# Altium integrated library TI Amplifiers and Linear Operational Amplifier Precision Amplifier Part One.IntLib: 2299 symbols (part 25 of 85)
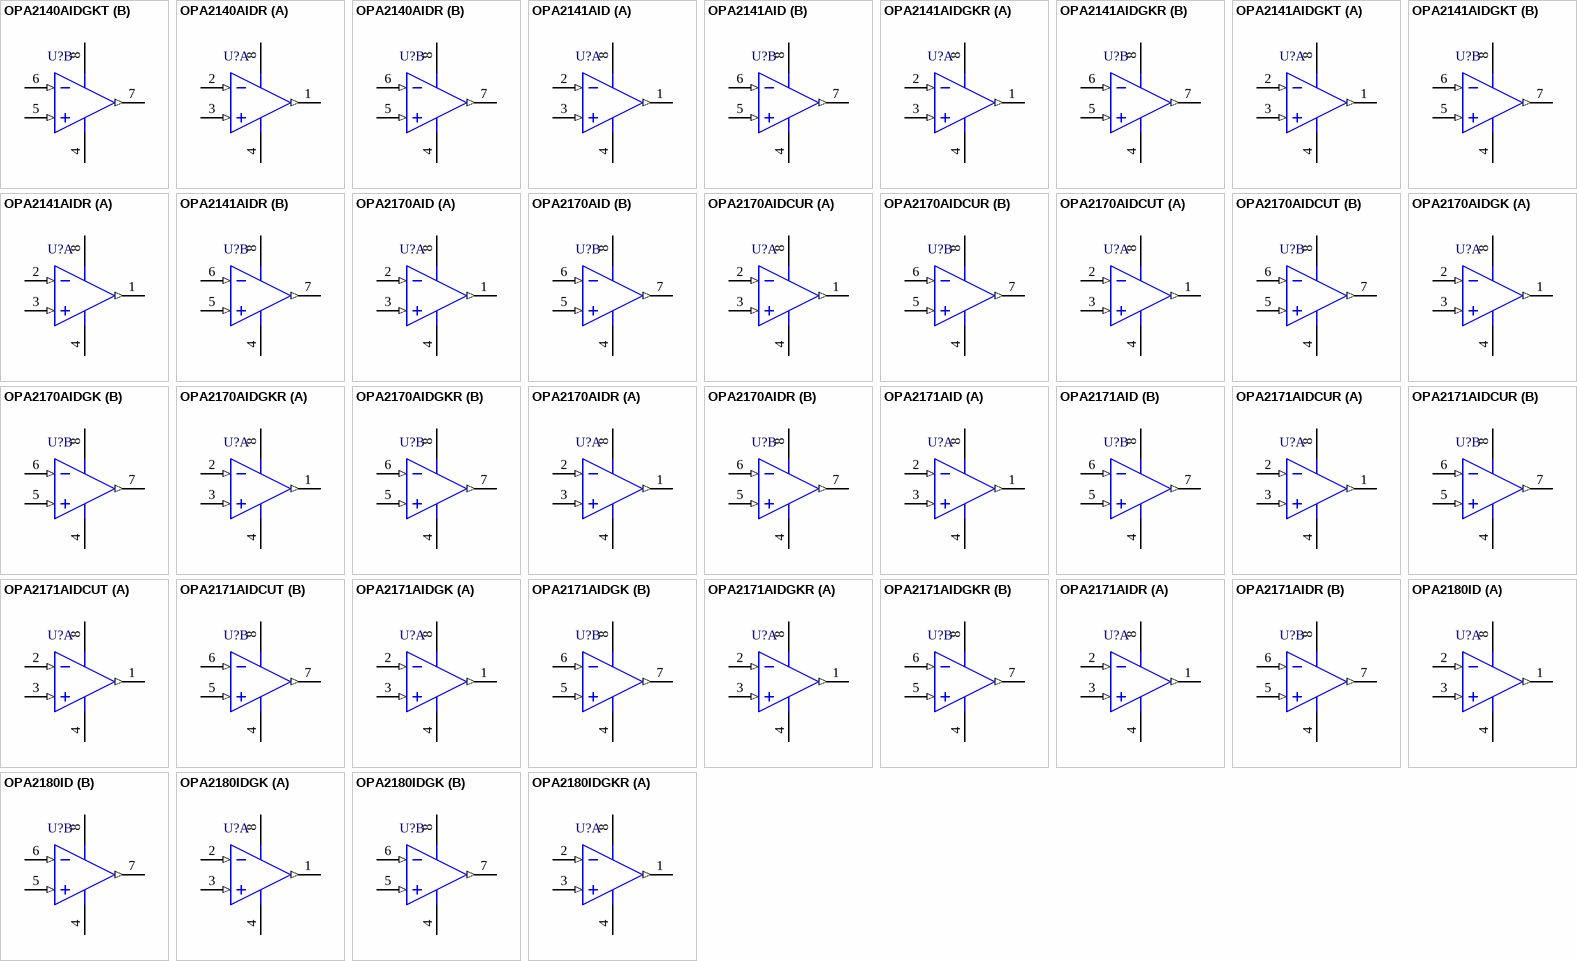
[diagram p148: symbols OPA2140AIDGKT to OPA2180IDGKR]

## OPA2141AIDR
designator U?
10 MHz, Single Supply, Low Noise, JFET Precision Amplifier, 4.5 to 36 V, -40 to 125 degC, 8-pin SOIC (D8), Green (RoHS & no Sb/Br); Manufacturer: Texas Instruments; PartNumber: OPA2141AIDR; CMRR(Min)(dB): 120; GBW(Typ)(MHz): 10; IIB(Max)(pA): 20; Iq per channel(Max)(mA): 2.3; Number of Channels: 2; Packing: LARGE T&R; Rating: Catalog; Sub Family: High Supply Voltage Amplifier (>=30V), Low Noise Amp (<=10nV/rtHz), Precision Amplifier; Total Supply Voltage(Max)(+5V is 5, +/-5V is 10): 36; Total Supply Voltage(Min)(+5V is 5, +/-5V is 10): 4.5; Vio (25C)(Max)(mV): 3.5; DatasheetVersion: SBOS510B; PackageVersion: 4040047-3/M, 06/2011; PackageReference: D8; PackageDescription: 8-Pin Plastic Small Outline, Body 4.9 x 3.9 mm, Pitch 1.27 mm; Supplier 1: Digi-Key; Supplier Part Number 1: OPA2141AIDR-ND; Supplier 2: Mouser; Supplier Part Number 2: 595-OPA2141AIDR; Eco-Plan: Green (RoHS & no Sb/Br); Offset Drift(Typ)(uV/C): 2; Slew Rate(Typ)(V/us): 20; Mounting Technology: Surface Mount; Code_JEDEC: MS-012; ComponentLink1Description: Manufacturer URL; ComponentLink1URL: http://www.ti.com/; ComponentLink2Description: Datasheet; ComponentLink2URL: http://www.ti.com/lit/ds/symlink/opa2141.pdf; ComponentLink3Description: Package Specification; ComponentLink3URL: http://www.ti.com/litv/pdf/msoi002j
footprint TI-D8_N (SOIC, 8-Leads, Body 4.9x3.9mm, Pitch 1.27mm, IPC Medium Density)
footprint TI-D8_L (SOIC, 8-Leads, Body 4.9x3.9mm, Pitch 1.27mm, IPC High Density)
footprint TI-D8_M (SOIC, 8-Leads, Body 4.9x3.9mm, Pitch 1.27mm, IPC Low Density)
pins on every part: 4 V- (power), 8 V+ (power)
part A pins: 1 OUT A (out), 2 IN A- (in), 3 IN A+ (in)
part B pins: 5 IN B+ (in), 6 IN B- (in), 7 OUT B (out)

## OPA2170AID
designator U?
MicroPower, Rail-to-Rail Output, Dual, General Purpose Operational Amplifier, 2.7 to 36 V, -40 to 125 degC, 8-pin SOIC (D8), Green (RoHS & no Sb/Br); Manufacturer: Texas Instruments; PartNumber: OPA2170AID; CMRR(Min)(dB): 104; GBW(Typ)(MHz): 1.2; IIB(Max)(pA): 15; Iq per channel(Max)(mA): 0.145; Number of Channels: 2; Offset Drift(Typ)(uV/C): 0.3; Packing: SMALL T&R; Rating: Catalog; Slew Rate(Typ)(V/us): 0.4; Sub Family: High Supply Voltage Amplifier (>=30V), Low Power Amp (<=500uA), Low Supply Voltage Amplifier (<=2.7V), Precision Amplifier; Total Supply Voltage(Max)(+5V is 5, +/-5V is 10): 36; Total Supply Voltage(Min)(+5V is 5, +/-5V is 10): 2.7; Vio (25C)(Max)(mV): 1.8; DatasheetVersion: SBOS557B; PackageVersion: 4040047-3/M, 06/2011; PackageReference: D8; PackageDescription: 8-Pin Plastic Small Outline, Body 4.9 x 3.9 mm, Pitch 1.27 mm; Supplier 1: Digi-Key; Supplier Part Number 1: OPA2170AID-ND; Supplier 2: Farnell; Supplier Part Number 2: 2144252; Supplier 3: Newark; Supplier Part Number 3: 82T4024; Supplier 4: Newark; Supplier Part Number 4: 05W9871; Supplier 5: Mouser; Supplier Part Number 5: 595-OPA2170AID; Eco-Plan: Green (RoHS & no Sb/Br); Mounting Technology: Surface Mount; Code_JEDEC: MS-012; ComponentLink1Description: Manufacturer URL; ComponentLink1URL: http://www.ti.com/; ComponentLink2Description: Datasheet; ComponentLink2URL: http://www.ti.com/lit/ds/symlink/opa2170.pdf; ComponentLink3Description: Package Specification; ComponentLink3URL: http://www.ti.com/litv/pdf/msoi002j
footprint TI-D8_N (SOIC, 8-Leads, Body 4.9x3.9mm, Pitch 1.27mm, IPC Medium Density)
footprint TI-D8_L (SOIC, 8-Leads, Body 4.9x3.9mm, Pitch 1.27mm, IPC High Density)
footprint TI-D8_M (SOIC, 8-Leads, Body 4.9x3.9mm, Pitch 1.27mm, IPC Low Density)
pins on every part: 4 V- (power), 8 V+ (power)
part A pins: 1 OUT A (out), 2 IN A- (in), 3 IN A+ (in)
part B pins: 5 IN B+ (in), 6 IN B- (in), 7 OUT B (out)

## OPA2170AIDCUR
designator U?
MicroPower, Rail-to-Rail Output, Dual, General Purpose Operational Amplifier, 2.7 to 36 V, -40 to 125 degC, 8-pin SOP (DCU8), Green (RoHS & no Sb/Br); Manufacturer: Texas Instruments; PartNumber: OPA2170AIDCUR; CMRR(Min)(dB): 104; GBW(Typ)(MHz): 1.2; IIB(Max)(pA): 15; Iq per channel(Max)(mA): 0.145; Number of Channels: 2; Offset Drift(Typ)(uV/C): 0.3; Packing: LARGE T&R; Rating: Catalog; Slew Rate(Typ)(V/us): 0.4; Sub Family: High Supply Voltage Amplifier (>=30V), Low Power Amp (<=500uA), Low Supply Voltage Amplifier (<=2.7V), Precision Amplifier; Total Supply Voltage(Max)(+5V is 5, +/-5V is 10): 36; Total Supply Voltage(Min)(+5V is 5, +/-5V is 10): 2.7; Vio (25C)(Max)(mV): 1.8; DatasheetVersion: SBOS557B; PackageVersion: 4200503/F, 07/2005; PackageReference: DCU8; PackageDescription: 8-Pin Plastic Small Outline Package, Body 2.3 x 2 mm, Ptch 0.5 mm; Supplier 1: Digi-Key; Supplier Part Number 1: OPA2170AIDCUR-ND; Supplier 2: Newark; Supplier Part Number 2: 55W7041; Supplier 3: Mouser; Supplier Part Number 3: 595-OPA2170AIDCUR; Eco-Plan: Green (RoHS & no Sb/Br); Mounting Technology: Surface Mount; Code_JEDEC: MO-187; ComponentLink1Description: Manufacturer URL; ComponentLink1URL: http://www.ti.com/; ComponentLink2Description: Datasheet; ComponentLink2URL: http://www.ti.com/lit/ds/symlink/opa2170.pdf; ComponentLink3Description: Package Specification; ComponentLink3URL: http://www.ti.com/litv/pdf/mpds050d
footprint TI-DCU8_N (SOP, 8-Leads, Body 2.2x2mm, Pitch 0.5mm, IPC Medium Density)
footprint TI-DCU8_L (SOP, 8-Leads, Body 2.2x2mm, Pitch 0.5mm, IPC High Density)
footprint TI-DCU8_M (SOP, 8-Leads, Body 2.2x2mm, Pitch 0.5mm, IPC Low Density)
pins on every part: 4 V- (power), 8 V+ (power)
part A pins: 1 OUT A (out), 2 IN A- (in), 3 IN A+ (in)
part B pins: 5 IN B+ (in), 6 IN B- (in), 7 OUT B (out)

## OPA2170AIDCUT
designator U?
MicroPower, Rail-to-Rail Output, Dual, General Purpose Operational Amplifier, 2.7 to 36 V, -40 to 125 degC, 8-pin SOP (DCU8), Green (RoHS & no Sb/Br); Manufacturer: Texas Instruments; PartNumber: OPA2170AIDCUT; CMRR(Min)(dB): 104; GBW(Typ)(MHz): 1.2; IIB(Max)(pA): 15; Iq per channel(Max)(mA): 0.145; Number of Channels: 2; Offset Drift(Typ)(uV/C): 0.3; Packing: SMALL T&R; Rating: Catalog; Slew Rate(Typ)(V/us): 0.4; Sub Family: High Supply Voltage Amplifier (>=30V), Low Power Amp (<=500uA), Low Supply Voltage Amplifier (<=2.7V), Precision Amplifier; Total Supply Voltage(Max)(+5V is 5, +/-5V is 10): 36; Total Supply Voltage(Min)(+5V is 5, +/-5V is 10): 2.7; Vio (25C)(Max)(mV): 1.8; DatasheetVersion: SBOS557B; PackageVersion: 4200503/F, 07/2005; PackageReference: DCU8; PackageDescription: 8-Pin Plastic Small Outline Package, Body 2.3 x 2 mm, Ptch 0.5 mm; Supplier 1: Digi-Key; Supplier Part Number 1: 296-35657-2-ND; Supplier 2: Digi-Key; Supplier Part Number 2: 296-35657-1-ND; Supplier 3: Digi-Key; Supplier Part Number 3: 296-35657-6-ND; Supplier 4: Farnell; Supplier Part Number 4: 2307922; Supplier 5: Newark; Supplier Part Number 5: 55W7042; Supplier 6: Newark; Supplier Part Number 6: 70W0123; Supplier 7: Mouser; Supplier Part Number 7: 595-OPA2170AIDCUT; Eco-Plan: Green (RoHS & no Sb/Br); Mounting Technology: Surface Mount; Code_JEDEC: MO-187; ComponentLink1Description: Manufacturer URL; ComponentLink1URL: http://www.ti.com/; ComponentLink2Description: Datasheet; ComponentLink2URL: http://www.ti.com/lit/ds/symlink/opa2170.pdf; ComponentLink3Description: Package Specification; ComponentLink3URL: http://www.ti.com/litv/pdf/mpds050d
footprint TI-DCU8_N (SOP, 8-Leads, Body 2.2x2mm, Pitch 0.5mm, IPC Medium Density)
footprint TI-DCU8_L (SOP, 8-Leads, Body 2.2x2mm, Pitch 0.5mm, IPC High Density)
footprint TI-DCU8_M (SOP, 8-Leads, Body 2.2x2mm, Pitch 0.5mm, IPC Low Density)
pins on every part: 4 V- (power), 8 V+ (power)
part A pins: 1 OUT A (out), 2 IN A- (in), 3 IN A+ (in)
part B pins: 5 IN B+ (in), 6 IN B- (in), 7 OUT B (out)

## OPA2170AIDGK
designator U?
MicroPower, Rail-to-Rail Output, Dual, General Purpose Operational Amplifier, 2.7 to 36 V, -40 to 125 degC, 8-pin SOP (DGK8), Green (RoHS & no Sb/Br); Manufacturer: Texas Instruments; PartNumber: OPA2170AIDGK; CMRR(Min)(dB): 104; GBW(Typ)(MHz): 1.2; IIB(Max)(pA): 15; Iq per channel(Max)(mA): 0.145; Number of Channels: 2; Offset Drift(Typ)(uV/C): 0.3; Packing: TUBE; Rating: Catalog; Slew Rate(Typ)(V/us): 0.4; Sub Family: High Supply Voltage Amplifier (>=30V), Low Power Amp (<=500uA), Low Supply Voltage Amplifier (<=2.7V), Precision Amplifier; Total Supply Voltage(Max)(+5V is 5, +/-5V is 10): 36; Total Supply Voltage(Min)(+5V is 5, +/-5V is 10): 2.7; Vio (25C)(Max)(mV): 1.8; DatasheetVersion: SBOS557B; PackageVersion: 4073329/E, 05/2006; PackageReference: DGK8; PackageDescription: 8-Pin Thin Small Outline, Body 3 x 3 mm, Pitch 0.65 mm; Supplier 1: Digi-Key; Supplier Part Number 1: 296-30335-5-ND; Supplier 2: Farnell; Supplier Part Number 2: 2099891; Supplier 3: Newark; Supplier Part Number 3: 05W5671; Supplier 4: Newark; Supplier Part Number 4: 92T2254; Supplier 5: Mouser; Supplier Part Number 5: 595-OPA2170AIDGK; Eco-Plan: Green (RoHS & no Sb/Br); Mounting Technology: Surface Mount; Code_JEDEC: MO-187; ComponentLink1Description: Manufacturer URL; ComponentLink1URL: http://www.ti.com/; ComponentLink2Description: Datasheet; ComponentLink2URL: http://www.ti.com/lit/ds/symlink/opa2170.pdf; ComponentLink3Description: Package Specification; ComponentLink3URL: http://www.ti.com/litv/pdf/mpds028d
footprint TI-DGK8_N (SOP, 8-Leads, Body 3x3mm, Pitch 0.65mm, IPC Medium Density)
footprint TI-DGK8_L (SOP, 8-Leads, Body 3x3mm, Pitch 0.65mm, IPC High Density)
footprint TI-DGK8_M (SOP, 8-Leads, Body 3x3mm, Pitch 0.65mm, IPC Low Density)
pins on every part: 4 V- (power), 8 V+ (power)
part A pins: 1 OUT A (out), 2 IN A- (in), 3 IN A+ (in)
part B pins: 5 IN B+ (in), 6 IN B- (in), 7 OUT B (out)

## OPA2170AIDGKR
designator U?
MicroPower, Rail-to-Rail Output, Dual, General Purpose Operational Amplifier, 2.7 to 36 V, -40 to 125 degC, 8-pin SOP (DGK8), Green (RoHS & no Sb/Br); Manufacturer: Texas Instruments; PartNumber: OPA2170AIDGKR; CMRR(Min)(dB): 104; GBW(Typ)(MHz): 1.2; IIB(Max)(pA): 15; Iq per channel(Max)(mA): 0.145; Number of Channels: 2; Offset Drift(Typ)(uV/C): 0.3; Packing: LARGE T&R; Rating: Catalog; Slew Rate(Typ)(V/us): 0.4; Sub Family: High Supply Voltage Amplifier (>=30V), Low Power Amp (<=500uA), Low Supply Voltage Amplifier (<=2.7V), Precision Amplifier; Total Supply Voltage(Max)(+5V is 5, +/-5V is 10): 36; Total Supply Voltage(Min)(+5V is 5, +/-5V is 10): 2.7; Vio (25C)(Max)(mV): 1.8; DatasheetVersion: SBOS557B; PackageVersion: 4073329/E, 05/2006; PackageReference: DGK8; PackageDescription: 8-Pin Thin Small Outline, Body 3 x 3 mm, Pitch 0.65 mm; Supplier 1: Digi-Key; Supplier Part Number 1: OPA2170AIDGKR-ND; Supplier 2: Mouser; Supplier Part Number 2: 595-OPA2170AIDGKR; Eco-Plan: Green (RoHS & no Sb/Br); Mounting Technology: Surface Mount; Code_JEDEC: MO-187; ComponentLink1Description: Manufacturer URL; ComponentLink1URL: http://www.ti.com/; ComponentLink2Description: Datasheet; ComponentLink2URL: http://www.ti.com/lit/ds/symlink/opa2170.pdf; ComponentLink3Description: Package Specification; ComponentLink3URL: http://www.ti.com/litv/pdf/mpds028d
footprint TI-DGK8_N (SOP, 8-Leads, Body 3x3mm, Pitch 0.65mm, IPC Medium Density)
footprint TI-DGK8_L (SOP, 8-Leads, Body 3x3mm, Pitch 0.65mm, IPC High Density)
footprint TI-DGK8_M (SOP, 8-Leads, Body 3x3mm, Pitch 0.65mm, IPC Low Density)
pins on every part: 4 V- (power), 8 V+ (power)
part A pins: 1 OUT A (out), 2 IN A- (in), 3 IN A+ (in)
part B pins: 5 IN B+ (in), 6 IN B- (in), 7 OUT B (out)

## OPA2170AIDR
designator U?
MicroPower, Rail-to-Rail Output, Dual, General Purpose Operational Amplifier, 2.7 to 36 V, -40 to 125 degC, 8-pin SOIC (D8), Green (RoHS & no Sb/Br); Manufacturer: Texas Instruments; PartNumber: OPA2170AIDR; CMRR(Min)(dB): 104; GBW(Typ)(MHz): 1.2; IIB(Max)(pA): 15; Iq per channel(Max)(mA): 0.145; Number of Channels: 2; Offset Drift(Typ)(uV/C): 0.3; Packing: LARGE T&R; Rating: Catalog; Slew Rate(Typ)(V/us): 0.4; Sub Family: High Supply Voltage Amplifier (>=30V), Low Power Amp (<=500uA), Low Supply Voltage Amplifier (<=2.7V), Precision Amplifier; Total Supply Voltage(Max)(+5V is 5, +/-5V is 10): 36; Total Supply Voltage(Min)(+5V is 5, +/-5V is 10): 2.7; Vio (25C)(Max)(mV): 1.8; DatasheetVersion: SBOS557B; PackageVersion: 4040047-3/M, 06/2011; PackageReference: D8; PackageDescription: 8-Pin Plastic Small Outline, Body 4.9 x 3.9 mm, Pitch 1.27 mm; Supplier 1: Digi-Key; Supplier Part Number 1: 296-30291-2-ND; Supplier 2: Digi-Key; Supplier Part Number 2: 296-30291-1-ND; Supplier 3: Digi-Key; Supplier Part Number 3: 296-30291-6-ND; Supplier 4: Newark; Supplier Part Number 4: 82T4025; Supplier 5: Mouser; Supplier Part Number 5: 595-OPA2170AIDR; Eco-Plan: Green (RoHS & no Sb/Br); Mounting Technology: Surface Mount; Code_JEDEC: MS-012; ComponentLink1Description: Manufacturer URL; ComponentLink1URL: http://www.ti.com/; ComponentLink2Description: Datasheet; ComponentLink2URL: http://www.ti.com/lit/ds/symlink/opa2170.pdf; ComponentLink3Description: Package Specification; ComponentLink3URL: http://www.ti.com/litv/pdf/msoi002j
footprint TI-D8_N (SOIC, 8-Leads, Body 4.9x3.9mm, Pitch 1.27mm, IPC Medium Density)
footprint TI-D8_L (SOIC, 8-Leads, Body 4.9x3.9mm, Pitch 1.27mm, IPC High Density)
footprint TI-D8_M (SOIC, 8-Leads, Body 4.9x3.9mm, Pitch 1.27mm, IPC Low Density)
pins on every part: 4 V- (power), 8 V+ (power)
part A pins: 1 OUT A (out), 2 IN A- (in), 3 IN A+ (in)
part B pins: 5 IN B+ (in), 6 IN B- (in), 7 OUT B (out)

## OPA2171AID
designator U?
Low Power, RRO, General Purpose Operational Amplifier in MicroPackage, 2.7 to 36 V, -40 to 125 degC, 8-pin SOIC (D8), Green (RoHS & no Sb/Br); Manufacturer: Texas Instruments; PartNumber: OPA2171AID; CMRR(Min)(dB): 104; GBW(Typ)(MHz): 3; IIB(Max)(pA): 15; Iq per channel(Max)(mA): 0.595; Number of Channels: 2; Offset Drift(Typ)(uV/C): 0.3; Packing: TUBE; Rating: Catalog; Slew Rate(Typ)(V/us): 1.5; Sub Family: High Supply Voltage Amplifier (>=30V), Low Supply Voltage Amplifier (<=2.7V), Precision Amplifier; Total Supply Voltage(Max)(+5V is 5, +/-5V is 10): 36; Total Supply Voltage(Min)(+5V is 5, +/-5V is 10): 2.7; Vio (25C)(Max)(mV): 1.8; DatasheetVersion: SBOS516D; PackageVersion: 4040047-3/M, 06/2011; PackageReference: D8; PackageDescription: 8-Pin Plastic Small Outline, Body 4.9 x 3.9 mm, Pitch 1.27 mm; Supplier 1: Digi-Key; Supplier Part Number 1: 296-29012-5-ND; Supplier 2: Newark; Supplier Part Number 2: 52T8353; Supplier 3: Mouser; Supplier Part Number 3: 595-OPA2171AID; Eco-Plan: Green (RoHS & no Sb/Br); Mounting Technology: Surface Mount; Code_JEDEC: MS-012; ComponentLink1Description: Manufacturer URL; ComponentLink1URL: http://www.ti.com/; ComponentLink2Description: Datasheet; ComponentLink2URL: http://www.ti.com/lit/ds/symlink/opa2171.pdf; ComponentLink3Description: Package Specification; ComponentLink3URL: http://www.ti.com/litv/pdf/msoi002j
footprint TI-D8_N (SOIC, 8-Leads, Body 4.9x3.9mm, Pitch 1.27mm, IPC Medium Density)
footprint TI-D8_L (SOIC, 8-Leads, Body 4.9x3.9mm, Pitch 1.27mm, IPC High Density)
footprint TI-D8_M (SOIC, 8-Leads, Body 4.9x3.9mm, Pitch 1.27mm, IPC Low Density)
pins on every part: 4 V- (power), 8 V+ (power)
part A pins: 1 OUT A (out), 2 IN A- (in), 3 IN A+ (in)
part B pins: 5 IN B+ (in), 6 IN B- (in), 7 OUT B (out)

## OPA2171AIDCUR
designator U?
Low Power, RRO, General Purpose Operational Amplifier in MicroPackage, 2.7 to 36 V, -40 to 125 degC, 8-pin SOP (DCU8), Green (RoHS & no Sb/Br); Manufacturer: Texas Instruments; PartNumber: OPA2171AIDCUR; CMRR(Min)(dB): 104; GBW(Typ)(MHz): 3; IIB(Max)(pA): 15; Iq per channel(Max)(mA): 0.595; Number of Channels: 2; Offset Drift(Typ)(uV/C): 0.3; Packing: LARGE T&R; Rating: Catalog; Slew Rate(Typ)(V/us): 1.5; Sub Family: High Supply Voltage Amplifier (>=30V), Low Supply Voltage Amplifier (<=2.7V), Precision Amplifier; Total Supply Voltage(Max)(+5V is 5, +/-5V is 10): 36; Total Supply Voltage(Min)(+5V is 5, +/-5V is 10): 2.7; Vio (25C)(Max)(mV): 1.8; DatasheetVersion: SBOS516D; PackageVersion: 4200503/F, 07/2005; PackageReference: DCU8; PackageDescription: 8-Pin Plastic Small Outline Package, Body 2.3 x 2 mm, Ptch 0.5 mm; Supplier 1: Digi-Key; Supplier Part Number 1: 296-29399-2-ND; Supplier 2: Digi-Key; Supplier Part Number 2: 296-29399-1-ND; Supplier 3: Digi-Key; Supplier Part Number 3: 296-29399-6-ND; Supplier 4: Mouser; Supplier Part Number 4: 595-OPA2171AIDCUR; Eco-Plan: Green (RoHS & no Sb/Br); Mounting Technology: Surface Mount; Code_JEDEC: MO-187; ComponentLink1Description: Manufacturer URL; ComponentLink1URL: http://www.ti.com/; ComponentLink2Description: Datasheet; ComponentLink2URL: http://www.ti.com/lit/ds/symlink/opa2171.pdf; ComponentLink3Description: Package Specification; ComponentLink3URL: http://www.ti.com/litv/pdf/mpds050d
footprint TI-DCU8_N (SOP, 8-Leads, Body 2.2x2mm, Pitch 0.5mm, IPC Medium Density)
footprint TI-DCU8_L (SOP, 8-Leads, Body 2.2x2mm, Pitch 0.5mm, IPC High Density)
footprint TI-DCU8_M (SOP, 8-Leads, Body 2.2x2mm, Pitch 0.5mm, IPC Low Density)
pins on every part: 4 V- (power), 8 V+ (power)
part A pins: 1 OUT A (out), 2 IN A- (in), 3 IN A+ (in)
part B pins: 5 IN B+ (in), 6 IN B- (in), 7 OUT B (out)

## OPA2171AIDCUT
designator U?
Low Power, RRO, General Purpose Operational Amplifier in MicroPackage, 2.7 to 36 V, -40 to 125 degC, 8-pin SOP (DCU8), Green (RoHS & no Sb/Br); Manufacturer: Texas Instruments; PartNumber: OPA2171AIDCUT; CMRR(Min)(dB): 104; GBW(Typ)(MHz): 3; IIB(Max)(pA): 15; Iq per channel(Max)(mA): 0.595; Number of Channels: 2; Offset Drift(Typ)(uV/C): 0.3; Packing: SMALL T&R; Rating: Catalog; Slew Rate(Typ)(V/us): 1.5; Sub Family: High Supply Voltage Amplifier (>=30V), Low Supply Voltage Amplifier (<=2.7V), Precision Amplifier; Total Supply Voltage(Max)(+5V is 5, +/-5V is 10): 36; Total Supply Voltage(Min)(+5V is 5, +/-5V is 10): 2.7; Vio (25C)(Max)(mV): 1.8; DatasheetVersion: SBOS516D; PackageVersion: 4200503/F, 07/2005; PackageReference: DCU8; PackageDescription: 8-Pin Plastic Small Outline Package, Body 2.3 x 2 mm, Ptch 0.5 mm; Supplier 1: Digi-Key; Supplier Part Number 1: 296-29514-2-ND; Supplier 2: Digi-Key; Supplier Part Number 2: 296-29514-1-ND; Supplier 3: Digi-Key; Supplier Part Number 3: 296-29514-6-ND; Supplier 4: Farnell; Supplier Part Number 4: 2057090; Supplier 5: Newark; Supplier Part Number 5: 05W9872; Supplier 6: Newark; Supplier Part Number 6: 61T5953; Supplier 7: Mouser; Supplier Part Number 7: 595-OPA2171AIDCUT; Eco-Plan: Green (RoHS & no Sb/Br); Mounting Technology: Surface Mount; Code_JEDEC: MO-187; ComponentLink1Description: Manufacturer URL; ComponentLink1URL: http://www.ti.com/; ComponentLink2Description: Datasheet; ComponentLink2URL: http://www.ti.com/lit/ds/symlink/opa2171.pdf; ComponentLink3Description: Package Specification; ComponentLink3URL: http://www.ti.com/litv/pdf/mpds050d
footprint TI-DCU8_N (SOP, 8-Leads, Body 2.2x2mm, Pitch 0.5mm, IPC Medium Density)
footprint TI-DCU8_L (SOP, 8-Leads, Body 2.2x2mm, Pitch 0.5mm, IPC High Density)
footprint TI-DCU8_M (SOP, 8-Leads, Body 2.2x2mm, Pitch 0.5mm, IPC Low Density)
pins on every part: 4 V- (power), 8 V+ (power)
part A pins: 1 OUT A (out), 2 IN A- (in), 3 IN A+ (in)
part B pins: 5 IN B+ (in), 6 IN B- (in), 7 OUT B (out)

## OPA2171AIDGK
designator U?
Low Power, RRO, General Purpose Operational Amplifier in MicroPackage, 2.7 to 36 V, -40 to 125 degC, 8-pin SOP (DGK8), Green (RoHS & no Sb/Br); Manufacturer: Texas Instruments; PartNumber: OPA2171AIDGK; CMRR(Min)(dB): 104; GBW(Typ)(MHz): 3; IIB(Max)(pA): 15; Iq per channel(Max)(mA): 0.595; Number of Channels: 2; Offset Drift(Typ)(uV/C): 0.3; Packing: TUBE; Rating: Catalog; Slew Rate(Typ)(V/us): 1.5; Sub Family: High Supply Voltage Amplifier (>=30V), Low Supply Voltage Amplifier (<=2.7V), Precision Amplifier; Total Supply Voltage(Max)(+5V is 5, +/-5V is 10): 36; Total Supply Voltage(Min)(+5V is 5, +/-5V is 10): 2.7; Vio (25C)(Max)(mV): 1.8; DatasheetVersion: SBOS516D; PackageVersion: 4073329/E, 05/2006; PackageReference: DGK8; PackageDescription: 8-Pin Thin Small Outline, Body 3 x 3 mm, Pitch 0.65 mm; Supplier 1: Digi-Key; Supplier Part Number 1: 296-30378-5-ND; Supplier 2: Farnell; Supplier Part Number 2: 2115227; Supplier 3: Newark; Supplier Part Number 3: 05W5672; Supplier 4: Newark; Supplier Part Number 4: 92T2256; Supplier 5: Mouser; Supplier Part Number 5: 595-OPA2171AIDGK; Eco-Plan: Green (RoHS & no Sb/Br); Mounting Technology: Surface Mount; Code_JEDEC: MO-187; ComponentLink1Description: Manufacturer URL; ComponentLink1URL: http://www.ti.com/; ComponentLink2Description: Datasheet; ComponentLink2URL: http://www.ti.com/lit/ds/symlink/opa2171.pdf; ComponentLink3Description: Package Specification; ComponentLink3URL: http://www.ti.com/litv/pdf/mpds028d
footprint TI-DGK8_N (SOP, 8-Leads, Body 3x3mm, Pitch 0.65mm, IPC Medium Density)
footprint TI-DGK8_L (SOP, 8-Leads, Body 3x3mm, Pitch 0.65mm, IPC High Density)
footprint TI-DGK8_M (SOP, 8-Leads, Body 3x3mm, Pitch 0.65mm, IPC Low Density)
pins on every part: 4 V- (power), 8 V+ (power)
part A pins: 1 OUT A (out), 2 IN A- (in), 3 IN A+ (in)
part B pins: 5 IN B+ (in), 6 IN B- (in), 7 OUT B (out)

## OPA2171AIDGKR
designator U?
Low Power, RRO, General Purpose Operational Amplifier in MicroPackage, 2.7 to 36 V, -40 to 125 degC, 8-pin SOP (DGK8), Green (RoHS & no Sb/Br); Manufacturer: Texas Instruments; PartNumber: OPA2171AIDGKR; CMRR(Min)(dB): 104; GBW(Typ)(MHz): 3; IIB(Max)(pA): 15; Iq per channel(Max)(mA): 0.595; Number of Channels: 2; Offset Drift(Typ)(uV/C): 0.3; Packing: LARGE T&R; Rating: Catalog; Slew Rate(Typ)(V/us): 1.5; Sub Family: High Supply Voltage Amplifier (>=30V), Low Supply Voltage Amplifier (<=2.7V), Precision Amplifier; Total Supply Voltage(Max)(+5V is 5, +/-5V is 10): 36; Total Supply Voltage(Min)(+5V is 5, +/-5V is 10): 2.7; Vio (25C)(Max)(mV): 1.8; DatasheetVersion: SBOS516D; PackageVersion: 4073329/E, 05/2006; PackageReference: DGK8; PackageDescription: 8-Pin Thin Small Outline, Body 3 x 3 mm, Pitch 0.65 mm; Supplier 1: Digi-Key; Supplier Part Number 1: OPA2171AIDGKR-ND; Supplier 2: Mouser; Supplier Part Number 2: 595-OPA2171AIDGKR; Eco-Plan: Green (RoHS & no Sb/Br); Mounting Technology: Surface Mount; Code_JEDEC: MO-187; ComponentLink1Description: Manufacturer URL; ComponentLink1URL: http://www.ti.com/; ComponentLink2Description: Datasheet; ComponentLink2URL: http://www.ti.com/lit/ds/symlink/opa2171.pdf; ComponentLink3Description: Package Specification; ComponentLink3URL: http://www.ti.com/litv/pdf/mpds028d
footprint TI-DGK8_N (SOP, 8-Leads, Body 3x3mm, Pitch 0.65mm, IPC Medium Density)
footprint TI-DGK8_L (SOP, 8-Leads, Body 3x3mm, Pitch 0.65mm, IPC High Density)
footprint TI-DGK8_M (SOP, 8-Leads, Body 3x3mm, Pitch 0.65mm, IPC Low Density)
pins on every part: 4 V- (power), 8 V+ (power)
part A pins: 1 OUT A (out), 2 IN A- (in), 3 IN A+ (in)
part B pins: 5 IN B+ (in), 6 IN B- (in), 7 OUT B (out)

## OPA2171AIDR
designator U?
Low Power, RRO, General Purpose Operational Amplifier in MicroPackage, 2.7 to 36 V, -40 to 125 degC, 8-pin SOIC (D8), Green (RoHS & no Sb/Br); Manufacturer: Texas Instruments; PartNumber: OPA2171AIDR; CMRR(Min)(dB): 104; GBW(Typ)(MHz): 3; IIB(Max)(pA): 15; Iq per channel(Max)(mA): 0.595; Number of Channels: 2; Offset Drift(Typ)(uV/C): 0.3; Packing: LARGE T&R; Rating: Catalog; Slew Rate(Typ)(V/us): 1.5; Sub Family: High Supply Voltage Amplifier (>=30V), Low Supply Voltage Amplifier (<=2.7V), Precision Amplifier; Total Supply Voltage(Max)(+5V is 5, +/-5V is 10): 36; Total Supply Voltage(Min)(+5V is 5, +/-5V is 10): 2.7; Vio (25C)(Max)(mV): 1.8; DatasheetVersion: SBOS516D; PackageVersion: 4040047-3/M, 06/2011; PackageReference: D8; PackageDescription: 8-Pin Plastic Small Outline, Body 4.9 x 3.9 mm, Pitch 1.27 mm; Supplier 1: Digi-Key; Supplier Part Number 1: 296-29091-2-ND; Supplier 2: Digi-Key; Supplier Part Number 2: 296-29091-1-ND; Supplier 3: Digi-Key; Supplier Part Number 3: 296-29091-6-ND; Supplier 4: Farnell; Supplier Part Number 4: 1924810; Supplier 5: Farnell; Supplier Part Number 5: 1924810RL; Supplier 6: Newark; Supplier Part Number 6: 51T4052; Supplier 7: Newark; Supplier Part Number 7: 58T2105; Supplier 8: Mouser; Supplier Part Number 8: 595-OPA2171AIDR; Eco-Plan: Green (RoHS & no Sb/Br); Mounting Technology: Surface Mount; Code_JEDEC: MS-012; ComponentLink1Description: Manufacturer URL; ComponentLink1URL: http://www.ti.com/; ComponentLink2Description: Datasheet; ComponentLink2URL: http://www.ti.com/lit/ds/symlink/opa2171.pdf; ComponentLink3Description: Package Specification; ComponentLink3URL: http://www.ti.com/litv/pdf/msoi002j
footprint TI-D8_N (SOIC, 8-Leads, Body 4.9x3.9mm, Pitch 1.27mm, IPC Medium Density)
footprint TI-D8_L (SOIC, 8-Leads, Body 4.9x3.9mm, Pitch 1.27mm, IPC High Density)
footprint TI-D8_M (SOIC, 8-Leads, Body 4.9x3.9mm, Pitch 1.27mm, IPC Low Density)
pins on every part: 4 V- (power), 8 V+ (power)
part A pins: 1 OUT A (out), 2 IN A- (in), 3 IN A+ (in)
part B pins: 5 IN B+ (in), 6 IN B- (in), 7 OUT B (out)

## OPA2180ID
designator U?
0.1 uV/degC Drift, Low Noise, Rail-to-Rail Output, Zero-Drift Operational Amplifier, 4 to 36 V, -40 to 105 degC, 8-pin SOIC (D8), Green (RoHS & no Sb/Br); Manufacturer: Texas Instruments; PartNumber: OPA2180ID; CMRR(Min)(dB): 104; GBW(Typ)(MHz): 2; IIB(Max)(pA): 1000; Iq per channel(Max)(mA): 0.525; Offset Drift(Typ)(uV/C): 0.1; Packing: TUBE; Rating: Catalog; Slew Rate(Typ)(V/us): 0.8; Sub Family: High Supply Voltage Amplifier (>=30V), Low Noise Amp (<=10nV/rtHz), Precision Amplifier, Zero Drift Precision Amplifier; Total Supply Voltage(Max)(+5V is 5, +/-5V is 10): 36; Total Supply Voltage(Min)(+5V is 5, +/-5V is 10): 4; Vio (25C)(Max)(mV): 0.075; DatasheetVersion: SBOS584C; PackageVersion: 4040047-3/M, 06/2011; PackageReference: D8; PackageDescription: 8-Pin Plastic Small Outline, Body 4.9 x 3.9 mm, Pitch 1.27 mm; Supplier 1: Digi-Key; Supplier Part Number 1: 296-35716-5-ND; Supplier 2: Farnell; Supplier Part Number 2: 2307928; Supplier 3: Newark; Supplier Part Number 3: 76T6829; Supplier 4: Newark; Supplier Part Number 4: 70W0124; Supplier 5: Mouser; Supplier Part Number 5: 595-OPA2180ID; Eco-Plan: Green (RoHS & no Sb/Br); Number of Channels: 2; Mounting Technology: Surface Mount; Code_JEDEC: MS-012; ComponentLink1Description: Manufacturer URL; ComponentLink1URL: http://www.ti.com/; ComponentLink2Description: Datasheet; ComponentLink2URL: http://www.ti.com/lit/ds/symlink/opa2180.pdf; ComponentLink3Description: Package Specification; ComponentLink3URL: http://www.ti.com/litv/pdf/msoi002j
footprint TI-D8_N (SOIC, 8-Leads, Body 4.9x3.9mm, Pitch 1.27mm, IPC Medium Density)
footprint TI-D8_L (SOIC, 8-Leads, Body 4.9x3.9mm, Pitch 1.27mm, IPC High Density)
footprint TI-D8_M (SOIC, 8-Leads, Body 4.9x3.9mm, Pitch 1.27mm, IPC Low Density)
pins on every part: 4 V- (power), 8 V+ (power)
part A pins: 1 OUT A (out), 2 IN A- (in), 3 IN A+ (in)
part B pins: 5 IN B+ (in), 6 IN B- (in), 7 OUT B (out)

## OPA2180IDGK
designator U?
0.1 uV/degC Drift, Low Noise, Rail-to-Rail Output, Zero-Drift Operational Amplifier, 4 to 36 V, -40 to 105 degC, 8-pin SOP (DGK8), Green (RoHS & no Sb/Br); Manufacturer: Texas Instruments; PartNumber: OPA2180IDGK; CMRR(Min)(dB): 104; GBW(Typ)(MHz): 2; IIB(Max)(pA): 1000; Iq per channel(Max)(mA): 0.525; Offset Drift(Typ)(uV/C): 0.1; Packing: TUBE; Rating: Catalog; Slew Rate(Typ)(V/us): 0.8; Sub Family: High Supply Voltage Amplifier (>=30V), Low Noise Amp (<=10nV/rtHz), Precision Amplifier, Zero Drift Precision Amplifier; Total Supply Voltage(Max)(+5V is 5, +/-5V is 10): 36; Total Supply Voltage(Min)(+5V is 5, +/-5V is 10): 4; Vio (25C)(Max)(mV): 0.075; DatasheetVersion: SBOS584C; PackageVersion: 4073329/E, 05/2006; PackageReference: DGK8; PackageDescription: 8-Pin Thin Small Outline, Body 3 x 3 mm, Pitch 0.65 mm; Supplier 1: Digi-Key; Supplier Part Number 1: 296-35656-5-ND; Supplier 2: Farnell; Supplier Part Number 2: 2307924; Supplier 3: Newark; Supplier Part Number 3: 55W7043; Supplier 4: Newark; Supplier Part Number 4: 70W0125; Supplier 5: Mouser; Supplier Part Number 5: 595-OPA2180IDGK; Eco-Plan: Green (RoHS & no Sb/Br); Number of Channels: 2; Mounting Technology: Surface Mount; Code_JEDEC: MO-187; ComponentLink1Description: Manufacturer URL; ComponentLink1URL: http://www.ti.com/; ComponentLink2Description: Datasheet; ComponentLink2URL: http://www.ti.com/lit/ds/symlink/opa2180.pdf; ComponentLink3Description: Package Specification; ComponentLink3URL: http://www.ti.com/litv/pdf/mpds028d
footprint TI-DGK8_N (SOP, 8-Leads, Body 3x3mm, Pitch 0.65mm, IPC Medium Density)
footprint TI-DGK8_L (SOP, 8-Leads, Body 3x3mm, Pitch 0.65mm, IPC High Density)
footprint TI-DGK8_M (SOP, 8-Leads, Body 3x3mm, Pitch 0.65mm, IPC Low Density)
pins on every part: 4 V- (power), 8 V+ (power)
part A pins: 1 OUT A (out), 2 IN A- (in), 3 IN A+ (in)
part B pins: 5 IN B+ (in), 6 IN B- (in), 7 OUT B (out)

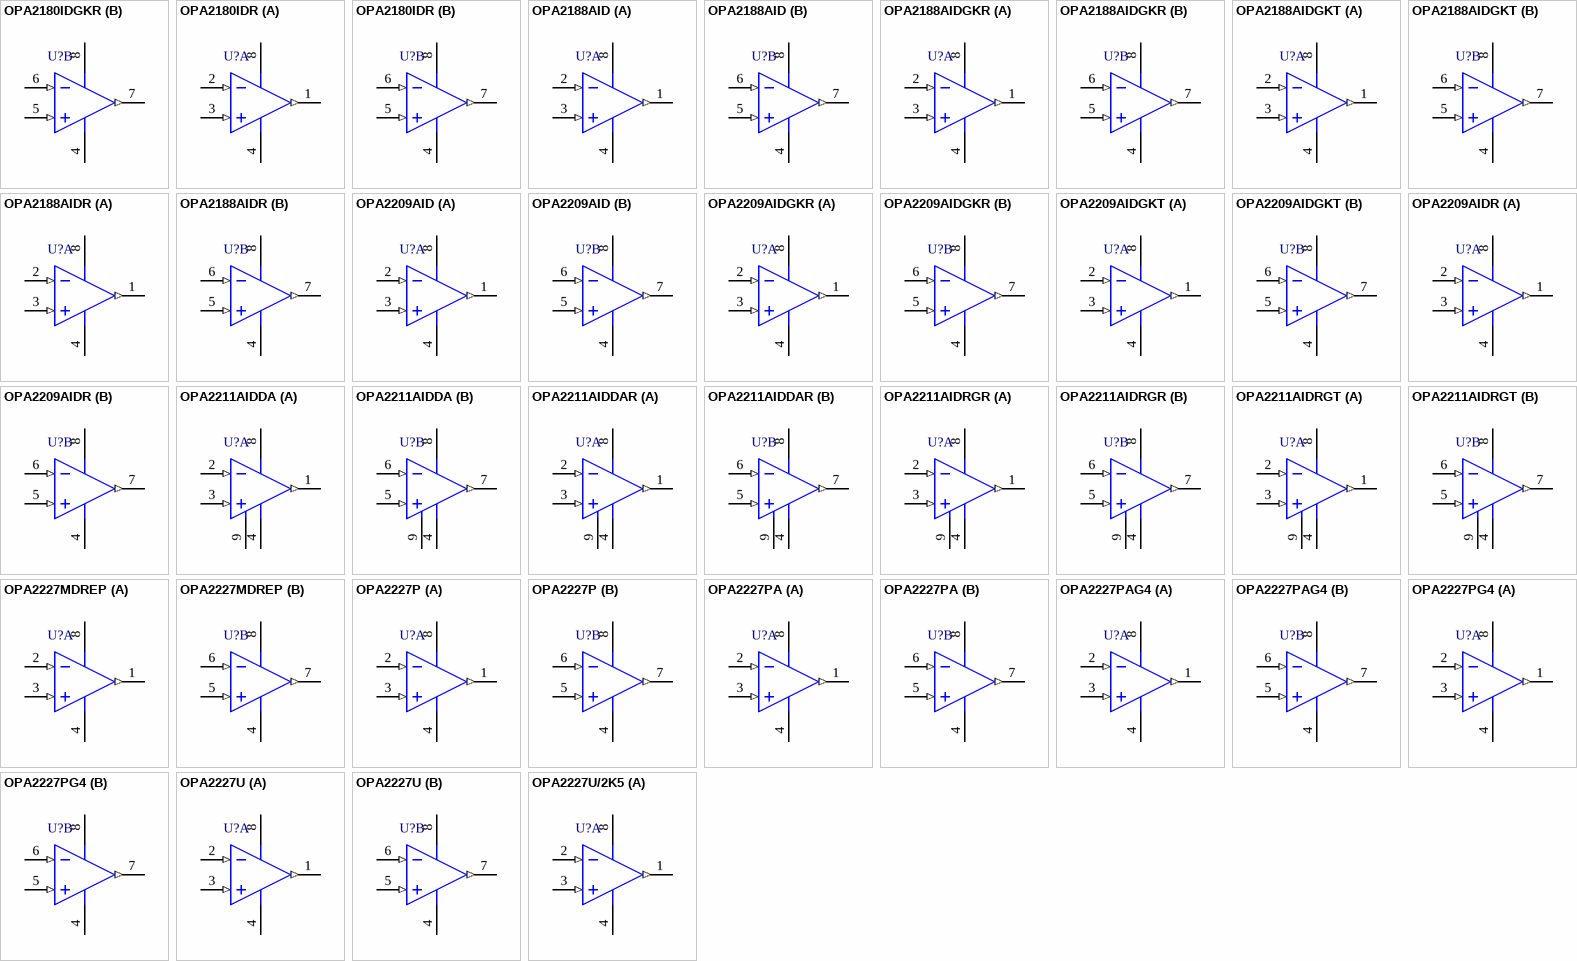
[diagram p26: symbols OPA2180IDGKR to OPA2227U/2K5]

## OPA2180IDGKR
designator U?
0.1 uV/degC Drift, Low Noise, Rail-to-Rail Output, Zero-Drift Operational Amplifier, 4 to 36 V, -40 to 125 degC, 8-pin SOP (DGK8), Green (RoHS & no Sb/Br); Manufacturer: Texas Instruments; PartNumber: OPA2180IDGKR; CMRR(Min)(dB): 104; GBW(Typ)(MHz): 2; IIB(Max)(pA): 1000; Iq per channel(Max)(mA): 0.525; Offset Drift(Typ)(uV/C): 0.1; Packing: LARGE T&R; Rating: Catalog; Slew Rate(Typ)(V/us): 0.8; Sub Family: High Supply Voltage Amplifier (>=30V), Low Noise Amp (<=10nV/rtHz), Precision Amplifier, Zero Drift Precision Amplifier; Total Supply Voltage(Max)(+5V is 5, +/-5V is 10): 36; Total Supply Voltage(Min)(+5V is 5, +/-5V is 10): 4; Vio (25C)(Max)(mV): 0.075; DatasheetVersion: SBOS584C; PackageVersion: 4073329/E, 05/2006; PackageReference: DGK8; PackageDescription: 8-Pin Thin Small Outline, Body 3 x 3 mm, Pitch 0.65 mm; Supplier 1: Digi-Key; Supplier Part Number 1: 296-35599-2-ND; Supplier 2: Digi-Key; Supplier Part Number 2: 296-35599-1-ND; Supplier 3: Digi-Key; Supplier Part Number 3: 296-35599-6-ND; Supplier 4: Newark; Supplier Part Number 4: 55W7044; Supplier 5: Mouser; Supplier Part Number 5: 595-OPA2180IDGKR; Eco-Plan: Green (RoHS & no Sb/Br); Number of Channels: 2; Mounting Technology: Surface Mount; Code_JEDEC: MO-187; ComponentLink1Description: Manufacturer URL; ComponentLink1URL: http://www.ti.com/; ComponentLink2Description: Datasheet; ComponentLink2URL: http://www.ti.com/lit/ds/symlink/opa2180.pdf; ComponentLink3Description: Package Specification; ComponentLink3URL: http://www.ti.com/litv/pdf/mpds028d
footprint TI-DGK8_N (SOP, 8-Leads, Body 3x3mm, Pitch 0.65mm, IPC Medium Density)
footprint TI-DGK8_L (SOP, 8-Leads, Body 3x3mm, Pitch 0.65mm, IPC High Density)
footprint TI-DGK8_M (SOP, 8-Leads, Body 3x3mm, Pitch 0.65mm, IPC Low Density)
pins on every part: 4 V- (power), 8 V+ (power)
part A pins: 1 OUT A (out), 2 IN A- (in), 3 IN A+ (in)
part B pins: 5 IN B+ (in), 6 IN B- (in), 7 OUT B (out)

## OPA2180IDR
designator U?
0.1 uV/degC Drift, Low Noise, Rail-to-Rail Output, Zero-Drift Operational Amplifier, 4 to 36 V, -40 to 105 degC, 8-pin SOIC (D8), Green (RoHS & no Sb/Br); Manufacturer: Texas Instruments; PartNumber: OPA2180IDR; CMRR(Min)(dB): 104; GBW(Typ)(MHz): 2; IIB(Max)(pA): 1000; Iq per channel(Max)(mA): 0.525; Offset Drift(Typ)(uV/C): 0.1; Packing: LARGE T&R; Rating: Catalog; Slew Rate(Typ)(V/us): 0.8; Sub Family: High Supply Voltage Amplifier (>=30V), Low Noise Amp (<=10nV/rtHz), Precision Amplifier, Zero Drift Precision Amplifier; Total Supply Voltage(Max)(+5V is 5, +/-5V is 10): 36; Total Supply Voltage(Min)(+5V is 5, +/-5V is 10): 4; Vio (25C)(Max)(mV): 0.075; DatasheetVersion: SBOS584C; PackageVersion: 4040047-3/M, 06/2011; PackageReference: D8; PackageDescription: 8-Pin Plastic Small Outline, Body 4.9 x 3.9 mm, Pitch 1.27 mm; Supplier 1: Digi-Key; Supplier Part Number 1: 296-30072-2-ND; Supplier 2: Digi-Key; Supplier Part Number 2: 296-30072-1-ND; Supplier 3: Digi-Key; Supplier Part Number 3: 296-30072-6-ND; Supplier 4: Newark; Supplier Part Number 4: 76T6830; Supplier 5: Mouser; Supplier Part Number 5: 595-OPA2180IDR; Eco-Plan: Green (RoHS & no Sb/Br); Number of Channels: 2; Mounting Technology: Surface Mount; Code_JEDEC: MS-012; ComponentLink1Description: Manufacturer URL; ComponentLink1URL: http://www.ti.com/; ComponentLink2Description: Datasheet; ComponentLink2URL: http://www.ti.com/lit/ds/symlink/opa2180.pdf; ComponentLink3Description: Package Specification; ComponentLink3URL: http://www.ti.com/litv/pdf/msoi002j
footprint TI-D8_N (SOIC, 8-Leads, Body 4.9x3.9mm, Pitch 1.27mm, IPC Medium Density)
footprint TI-D8_L (SOIC, 8-Leads, Body 4.9x3.9mm, Pitch 1.27mm, IPC High Density)
footprint TI-D8_M (SOIC, 8-Leads, Body 4.9x3.9mm, Pitch 1.27mm, IPC Low Density)
pins on every part: 4 V- (power), 8 V+ (power)
part A pins: 1 OUT A (out), 2 IN A- (in), 3 IN A+ (in)
part B pins: 5 IN B+ (in), 6 IN B- (in), 7 OUT B (out)

## OPA2188AID
designator U?
0.03 uV/degC, 6 uV Vos, Low Noise, Rail-to-Rail Output, Zero-Drift Operational Amplifier, 4 to 36 V, -40 to 105 degC, 8-pin SOIC (D8), Green (RoHS & no Sb/Br); Manufacturer: Texas Instruments; PartNumber: OPA2188AID; CMRR(Min)(dB): 120; GBW(Typ)(MHz): 2; IIB(Max)(pA): 850; Iq per channel(Max)(mA): 0.475; Offset Drift(Typ)(uV/C): 0.03; Packing: TUBE; Rating: Catalog; Slew Rate(Typ)(V/us): 0.8; Sub Family: High Supply Voltage Amplifier (>=30V), Low Noise Amp (<=10nV/rtHz), Low Offset Voltage Amplifier (<=500uV), Low Power Amp (<=500uA), Precision Amplifier, Zero Drift Precision Amplifier; Total Supply Voltage(Max)(+5V is 5, +/-5V is 10): 36; Total Supply Voltage(Min)(+5V is 5, +/-5V is 10): 4; Vio (25C)(Max)(mV): 0.025; DatasheetVersion: SBOS525B; PackageVersion: 4040047-3/M, 06/2011; PackageReference: D8; PackageDescription: 8-Pin Plastic Small Outline, Body 4.9 x 3.9 mm, Pitch 1.27 mm; Supplier 1: Digi-Key; Supplier Part Number 1: 296-36123-5-ND; Supplier 2: Newark; Supplier Part Number 2: 61T5954; Supplier 3: Mouser; Supplier Part Number 3: 595-OPA2188AID; Eco-Plan: Green (RoHS & no Sb/Br); Number of Channels: 2; Mounting Technology: Surface Mount; Code_JEDEC: MS-012; ComponentLink1Description: Manufacturer URL; ComponentLink1URL: http://www.ti.com/; ComponentLink2Description: Datasheet; ComponentLink2URL: http://www.ti.com/lit/ds/symlink/opa2188.pdf; ComponentLink3Description: Package Specification; ComponentLink3URL: http://www.ti.com/litv/pdf/msoi002j
footprint TI-D8_N (SOIC, 8-Leads, Body 4.9x3.9mm, Pitch 1.27mm, IPC Medium Density)
footprint TI-D8_L (SOIC, 8-Leads, Body 4.9x3.9mm, Pitch 1.27mm, IPC High Density)
footprint TI-D8_M (SOIC, 8-Leads, Body 4.9x3.9mm, Pitch 1.27mm, IPC Low Density)
pins on every part: 4 V- (power), 8 V+ (power)
part A pins: 1 OUT A (out), 2 IN A- (in), 3 IN A+ (in)
part B pins: 5 IN B+ (in), 6 IN B- (in), 7 OUT B (out)

## OPA2188AIDGKR
designator U?
0.03 uV/degC, 6 uV Vos, Low Noise, Rail-to-Rail Output, Zero-Drift Operational Amplifier, 4 to 36 V, -40 to 105 degC, 8-pin SOP (DGK8), Green (RoHS & no Sb/Br); Manufacturer: Texas Instruments; PartNumber: OPA2188AIDGKR; CMRR(Min)(dB): 120; GBW(Typ)(MHz): 2; IIB(Max)(pA): 850; Iq per channel(Max)(mA): 0.475; Offset Drift(Typ)(uV/C): 0.03; Packing: LARGE T&R; Rating: Catalog; Slew Rate(Typ)(V/us): 0.8; Sub Family: High Supply Voltage Amplifier (>=30V), Low Noise Amp (<=10nV/rtHz), Low Offset Voltage Amplifier (<=500uV), Low Power Amp (<=500uA), Precision Amplifier, Zero Drift Precision Amplifier; Total Supply Voltage(Max)(+5V is 5, +/-5V is 10): 36; Total Supply Voltage(Min)(+5V is 5, +/-5V is 10): 4; Vio (25C)(Max)(mV): 0.025; DatasheetVersion: SBOS525B; PackageVersion: 4073329/E, 05/2006; PackageReference: DGK8; PackageDescription: 8-Pin Thin Small Outline, Body 3 x 3 mm, Pitch 0.65 mm; Supplier 1: Digi-Key; Supplier Part Number 1: 296-29352-2-ND; Supplier 2: Digi-Key; Supplier Part Number 2: 296-29352-1-ND; Supplier 3: Digi-Key; Supplier Part Number 3: 296-29352-6-ND; Supplier 4: Farnell; Supplier Part Number 4: 2057091; Supplier 5: Farnell; Supplier Part Number 5: 2057091RL; Supplier 6: Newark; Supplier Part Number 6: 61T5955; Supplier 7: Newark; Supplier Part Number 7: 64T3750; Supplier 8: Mouser; Supplier Part Number 8: 595-OPA2188AIDGKR; Eco-Plan: Green (RoHS & no Sb/Br); Number of Channels: 2; Mounting Technology: Surface Mount; Code_JEDEC: MO-187; ComponentLink1Description: Manufacturer URL; ComponentLink1URL: http://www.ti.com/; ComponentLink2Description: Datasheet; ComponentLink2URL: http://www.ti.com/lit/ds/symlink/opa2188.pdf; ComponentLink3Description: Package Specification; ComponentLink3URL: http://www.ti.com/litv/pdf/mpds028d
footprint TI-DGK8_N (SOP, 8-Leads, Body 3x3mm, Pitch 0.65mm, IPC Medium Density)
footprint TI-DGK8_L (SOP, 8-Leads, Body 3x3mm, Pitch 0.65mm, IPC High Density)
footprint TI-DGK8_M (SOP, 8-Leads, Body 3x3mm, Pitch 0.65mm, IPC Low Density)
pins on every part: 4 V- (power), 8 V+ (power)
part A pins: 1 OUT A (out), 2 IN A- (in), 3 IN A+ (in)
part B pins: 5 IN B+ (in), 6 IN B- (in), 7 OUT B (out)

## OPA2188AIDGKT
designator U?
0.03 uV/degC, 6 uV Vos, Low Noise, Rail-to-Rail Output, Zero-Drift Operational Amplifier, 4 to 36 V, -40 to 105 degC, 8-pin SOP (DGK8), Green (RoHS & no Sb/Br); Manufacturer: Texas Instruments; PartNumber: OPA2188AIDGKT; CMRR(Min)(dB): 120; GBW(Typ)(MHz): 2; IIB(Max)(pA): 850; Iq per channel(Max)(mA): 0.475; Offset Drift(Typ)(uV/C): 0.03; Packing: SMALL T&R; Rating: Catalog; Slew Rate(Typ)(V/us): 0.8; Sub Family: High Supply Voltage Amplifier (>=30V), Low Noise Amp (<=10nV/rtHz), Low Offset Voltage Amplifier (<=500uV), Low Power Amp (<=500uA), Precision Amplifier, Zero Drift Precision Amplifier; Total Supply Voltage(Max)(+5V is 5, +/-5V is 10): 36; Total Supply Voltage(Min)(+5V is 5, +/-5V is 10): 4; Vio (25C)(Max)(mV): 0.025; DatasheetVersion: SBOS525B; PackageVersion: 4073329/E, 05/2006; PackageReference: DGK8; PackageDescription: 8-Pin Thin Small Outline, Body 3 x 3 mm, Pitch 0.65 mm; Supplier 1: Digi-Key; Supplier Part Number 1: 296-29331-2-ND; Supplier 2: Digi-Key; Supplier Part Number 2: 296-29331-1-ND; Supplier 3: Digi-Key; Supplier Part Number 3: 296-29331-6-ND; Supplier 4: Farnell; Supplier Part Number 4: 1972813; Supplier 5: Newark; Supplier Part Number 5: 58T3641; Supplier 6: Newark; Supplier Part Number 6: 58T9855; Supplier 7: Mouser; Supplier Part Number 7: 595-OPA2188AIDGKT; Eco-Plan: Green (RoHS & no Sb/Br); Number of Channels: 2; Mounting Technology: Surface Mount; Code_JEDEC: MO-187; ComponentLink1Description: Manufacturer URL; ComponentLink1URL: http://www.ti.com/; ComponentLink2Description: Datasheet; ComponentLink2URL: http://www.ti.com/lit/ds/symlink/opa2188.pdf; ComponentLink3Description: Package Specification; ComponentLink3URL: http://www.ti.com/litv/pdf/mpds028d
footprint TI-DGK8_N (SOP, 8-Leads, Body 3x3mm, Pitch 0.65mm, IPC Medium Density)
footprint TI-DGK8_L (SOP, 8-Leads, Body 3x3mm, Pitch 0.65mm, IPC High Density)
footprint TI-DGK8_M (SOP, 8-Leads, Body 3x3mm, Pitch 0.65mm, IPC Low Density)
pins on every part: 4 V- (power), 8 V+ (power)
part A pins: 1 OUT A (out), 2 IN A- (in), 3 IN A+ (in)
part B pins: 5 IN B+ (in), 6 IN B- (in), 7 OUT B (out)

## OPA2188AIDR
designator U?
0.03 uV/degC, 6 uV Vos, Low Noise, Rail-to-Rail Output, Zero-Drift Operational Amplifier, 4 to 36 V, -40 to 105 degC, 8-pin SOIC (D8), Green (RoHS & no Sb/Br); Manufacturer: Texas Instruments; PartNumber: OPA2188AIDR; CMRR(Min)(dB): 120; GBW(Typ)(MHz): 2; IIB(Max)(pA): 850; Iq per channel(Max)(mA): 0.475; Offset Drift(Typ)(uV/C): 0.03; Packing: LARGE T&R; Rating: Catalog; Slew Rate(Typ)(V/us): 0.8; Sub Family: High Supply Voltage Amplifier (>=30V), Low Noise Amp (<=10nV/rtHz), Low Offset Voltage Amplifier (<=500uV), Low Power Amp (<=500uA), Precision Amplifier, Zero Drift Precision Amplifier; Total Supply Voltage(Max)(+5V is 5, +/-5V is 10): 36; Total Supply Voltage(Min)(+5V is 5, +/-5V is 10): 4; Vio (25C)(Max)(mV): 0.025; DatasheetVersion: SBOS525B; PackageVersion: 4040047-3/M, 06/2011; PackageReference: D8; PackageDescription: 8-Pin Plastic Small Outline, Body 4.9 x 3.9 mm, Pitch 1.27 mm; Supplier 1: Digi-Key; Supplier Part Number 1: 296-29454-2-ND; Supplier 2: Digi-Key; Supplier Part Number 2: 296-29454-1-ND; Supplier 3: Digi-Key; Supplier Part Number 3: 296-29454-6-ND; Supplier 4: Newark; Supplier Part Number 4: 61T5956; Supplier 5: Mouser; Supplier Part Number 5: 595-OPA2188AIDR; Eco-Plan: Green (RoHS & no Sb/Br); Number of Channels: 2; Mounting Technology: Surface Mount; Code_JEDEC: MS-012; ComponentLink1Description: Manufacturer URL; ComponentLink1URL: http://www.ti.com/; ComponentLink2Description: Datasheet; ComponentLink2URL: http://www.ti.com/lit/ds/symlink/opa2188.pdf; ComponentLink3Description: Package Specification; ComponentLink3URL: http://www.ti.com/litv/pdf/msoi002j
footprint TI-D8_N (SOIC, 8-Leads, Body 4.9x3.9mm, Pitch 1.27mm, IPC Medium Density)
footprint TI-D8_L (SOIC, 8-Leads, Body 4.9x3.9mm, Pitch 1.27mm, IPC High Density)
footprint TI-D8_M (SOIC, 8-Leads, Body 4.9x3.9mm, Pitch 1.27mm, IPC Low Density)
pins on every part: 4 V- (power), 8 V+ (power)
part A pins: 1 OUT A (out), 2 IN A- (in), 3 IN A+ (in)
part B pins: 5 IN B+ (in), 6 IN B- (in), 7 OUT B (out)

## OPA2209AID
designator U?
2.2 nV/rtHz, 18 MHz, Precision, RRO, Operational Amplifier, 4.5 to 36 V, -40 to 125 degC, 8-pin SOIC (D8), Green (RoHS & no Sb/Br); Manufacturer: Texas Instruments; PartNumber: OPA2209AID; CMRR(Min)(dB): 120; GBW(Typ)(MHz): 18; IIB(Max)(pA): 4500; Iq per channel(Max)(mA): 2.5; Number of Channels: 2; Offset Drift(Typ)(uV/C): 1; Packing: TUBE; Rating: Catalog; Slew Rate(Typ)(V/us): 6.4; Sub Family: High Supply Voltage Amplifier (>=30V), Low Noise Amp (<=10nV/rtHz), Low Offset Voltage Amplifier (<=500uV), Precision Amplifier; Total Supply Voltage(Max)(+5V is 5, +/-5V is 10): 36; Total Supply Voltage(Min)(+5V is 5, +/-5V is 10): 4.5; Vio (25C)(Max)(mV): 0.15; DatasheetVersion: SBOS426B; PackageVersion: 4040047-3/M, 06/2011; PackageReference: D8; PackageDescription: 8-Pin Plastic Small Outline, Body 4.9 x 3.9 mm, Pitch 1.27 mm; Supplier 1: Digi-Key; Supplier Part Number 1: 296-24483-5-ND; Supplier 2: Newark; Supplier Part Number 2: 01T0588; Supplier 3: Mouser; Supplier Part Number 3: 595-OPA2209AID; Eco-Plan: Green (RoHS & no Sb/Br); Mounting Technology: Surface Mount; Code_JEDEC: MS-012; ComponentLink1Description: Manufacturer URL; ComponentLink1URL: http://www.ti.com/; ComponentLink2Description: Datasheet; ComponentLink2URL: http://www.ti.com/lit/ds/symlink/opa2209.pdf; ComponentLink3Description: Package Specification; ComponentLink3URL: http://www.ti.com/litv/pdf/msoi002j
footprint TI-D8_N (SOIC, 8-Leads, Body 4.9x3.9mm, Pitch 1.27mm, IPC Medium Density)
footprint TI-D8_L (SOIC, 8-Leads, Body 4.9x3.9mm, Pitch 1.27mm, IPC High Density)
footprint TI-D8_M (SOIC, 8-Leads, Body 4.9x3.9mm, Pitch 1.27mm, IPC Low Density)
pins on every part: 4 V- (power), 8 V+ (power)
part A pins: 1 OUT A (out), 2 IN A- (in), 3 IN A+ (in)
part B pins: 5 IN B+ (in), 6 IN B- (in), 7 OUT B (out)

## OPA2209AIDGKR
designator U?
2.2 nV/rtHz, 18 MHz, Precision, RRO, Operational Amplifier, 4.5 to 36 V, -40 to 125 degC, 8-pin SOP (DGK8), Green (RoHS & no Sb/Br); Manufacturer: Texas Instruments; PartNumber: OPA2209AIDGKR; CMRR(Min)(dB): 120; GBW(Typ)(MHz): 18; IIB(Max)(pA): 4500; Iq per channel(Max)(mA): 2.5; Number of Channels: 2; Offset Drift(Typ)(uV/C): 1; Packing: LARGE T&R; Rating: Catalog; Slew Rate(Typ)(V/us): 6.4; Sub Family: High Supply Voltage Amplifier (>=30V), Low Noise Amp (<=10nV/rtHz), Low Offset Voltage Amplifier (<=500uV), Precision Amplifier; Total Supply Voltage(Max)(+5V is 5, +/-5V is 10): 36; Total Supply Voltage(Min)(+5V is 5, +/-5V is 10): 4.5; Vio (25C)(Max)(mV): 0.15; DatasheetVersion: SBOS426B; PackageVersion: 4073329/E, 05/2006; PackageReference: DGK8; PackageDescription: 8-Pin Thin Small Outline, Body 3 x 3 mm, Pitch 0.65 mm; Supplier 1: Digi-Key; Supplier Part Number 1: OPA2209AIDGKR-ND; Supplier 2: Newark; Supplier Part Number 2: 01T0589; Supplier 3: Mouser; Supplier Part Number 3: 595-OPA2209AIDGKR; Eco-Plan: Green (RoHS & no Sb/Br); Mounting Technology: Surface Mount; Code_JEDEC: MO-187; ComponentLink1Description: Manufacturer URL; ComponentLink1URL: http://www.ti.com/; ComponentLink2Description: Datasheet; ComponentLink2URL: http://www.ti.com/lit/ds/symlink/opa2209.pdf; ComponentLink3Description: Package Specification; ComponentLink3URL: http://www.ti.com/litv/pdf/mpds028d
footprint TI-DGK8_N (SOP, 8-Leads, Body 3x3mm, Pitch 0.65mm, IPC Medium Density)
footprint TI-DGK8_L (SOP, 8-Leads, Body 3x3mm, Pitch 0.65mm, IPC High Density)
footprint TI-DGK8_M (SOP, 8-Leads, Body 3x3mm, Pitch 0.65mm, IPC Low Density)
pins on every part: 4 V- (power), 8 V+ (power)
part A pins: 1 OUT A (out), 2 IN A- (in), 3 IN A+ (in)
part B pins: 5 IN B+ (in), 6 IN B- (in), 7 OUT B (out)

## OPA2209AIDGKT
designator U?
2.2 nV/rtHz, 18 MHz, Precision, RRO, Operational Amplifier, 4.5 to 36 V, -40 to 125 degC, 8-pin SOP (DGK8), Green (RoHS & no Sb/Br); Manufacturer: Texas Instruments; PartNumber: OPA2209AIDGKT; CMRR(Min)(dB): 120; GBW(Typ)(MHz): 18; IIB(Max)(pA): 4500; Iq per channel(Max)(mA): 2.5; Number of Channels: 2; Offset Drift(Typ)(uV/C): 1; Packing: SMALL T&R; Rating: Catalog; Slew Rate(Typ)(V/us): 6.4; Sub Family: High Supply Voltage Amplifier (>=30V), Low Noise Amp (<=10nV/rtHz), Low Offset Voltage Amplifier (<=500uV), Precision Amplifier; Total Supply Voltage(Max)(+5V is 5, +/-5V is 10): 36; Total Supply Voltage(Min)(+5V is 5, +/-5V is 10): 4.5; Vio (25C)(Max)(mV): 0.15; DatasheetVersion: SBOS426B; PackageVersion: 4073329/E, 05/2006; PackageReference: DGK8; PackageDescription: 8-Pin Thin Small Outline, Body 3 x 3 mm, Pitch 0.65 mm; Supplier 1: Digi-Key; Supplier Part Number 1: 296-27848-2-ND; Supplier 2: Digi-Key; Supplier Part Number 2: 296-27848-1-ND; Supplier 3: Digi-Key; Supplier Part Number 3: 296-27848-6-ND; Supplier 4: Newark; Supplier Part Number 4: 01T0590; Supplier 5: Mouser; Supplier Part Number 5: 595-OPA2209AIDGKT; Eco-Plan: Green (RoHS & no Sb/Br); Mounting Technology: Surface Mount; Code_JEDEC: MO-187; ComponentLink1Description: Manufacturer URL; ComponentLink1URL: http://www.ti.com/; ComponentLink2Description: Datasheet; ComponentLink2URL: http://www.ti.com/lit/ds/symlink/opa2209.pdf; ComponentLink3Description: Package Specification; ComponentLink3URL: http://www.ti.com/litv/pdf/mpds028d
footprint TI-DGK8_N (SOP, 8-Leads, Body 3x3mm, Pitch 0.65mm, IPC Medium Density)
footprint TI-DGK8_L (SOP, 8-Leads, Body 3x3mm, Pitch 0.65mm, IPC High Density)
footprint TI-DGK8_M (SOP, 8-Leads, Body 3x3mm, Pitch 0.65mm, IPC Low Density)
pins on every part: 4 V- (power), 8 V+ (power)
part A pins: 1 OUT A (out), 2 IN A- (in), 3 IN A+ (in)
part B pins: 5 IN B+ (in), 6 IN B- (in), 7 OUT B (out)

## OPA2209AIDR
designator U?
2.2 nV/rtHz, 18 MHz, Precision, RRO, Operational Amplifier, 4.5 to 36 V, -40 to 125 degC, 8-pin SOIC (D8), Green (RoHS & no Sb/Br); Manufacturer: Texas Instruments; PartNumber: OPA2209AIDR; CMRR(Min)(dB): 120; GBW(Typ)(MHz): 18; IIB(Max)(pA): 4500; Iq per channel(Max)(mA): 2.5; Number of Channels: 2; Offset Drift(Typ)(uV/C): 1; Packing: LARGE T&R; Rating: Catalog; Slew Rate(Typ)(V/us): 6.4; Sub Family: High Supply Voltage Amplifier (>=30V), Low Noise Amp (<=10nV/rtHz), Low Offset Voltage Amplifier (<=500uV), Precision Amplifier; Total Supply Voltage(Max)(+5V is 5, +/-5V is 10): 36; Total Supply Voltage(Min)(+5V is 5, +/-5V is 10): 4.5; Vio (25C)(Max)(mV): 0.15; DatasheetVersion: SBOS426B; PackageVersion: 4040047-3/M, 06/2011; PackageReference: D8; PackageDescription: 8-Pin Plastic Small Outline, Body 4.9 x 3.9 mm, Pitch 1.27 mm; Supplier 1: Digi-Key; Supplier Part Number 1: 296-27783-2-ND; Supplier 2: Digi-Key; Supplier Part Number 2: 296-27783-1-ND; Supplier 3: Digi-Key; Supplier Part Number 3: 296-27783-6-ND; Supplier 4: Farnell; Supplier Part Number 4: 1862577; Supplier 5: Farnell; Supplier Part Number 5: 1862577RL; Supplier 6: Farnell; Supplier Part Number 6: 1844729; Supplier 7: Newark; Supplier Part Number 7: 91R0764; Supplier 8: Mouser; Supplier Part Number 8: 595-OPA2209AIDR; Eco-Plan: Green (RoHS & no Sb/Br); Mounting Technology: Surface Mount; Code_JEDEC: MS-012; ComponentLink1Description: Manufacturer URL; ComponentLink1URL: http://www.ti.com/; ComponentLink2Description: Datasheet; ComponentLink2URL: http://www.ti.com/lit/ds/symlink/opa2209.pdf; ComponentLink3Description: Package Specification; ComponentLink3URL: http://www.ti.com/litv/pdf/msoi002j
footprint TI-D8_N (SOIC, 8-Leads, Body 4.9x3.9mm, Pitch 1.27mm, IPC Medium Density)
footprint TI-D8_L (SOIC, 8-Leads, Body 4.9x3.9mm, Pitch 1.27mm, IPC High Density)
footprint TI-D8_M (SOIC, 8-Leads, Body 4.9x3.9mm, Pitch 1.27mm, IPC Low Density)
pins on every part: 4 V- (power), 8 V+ (power)
part A pins: 1 OUT A (out), 2 IN A- (in), 3 IN A+ (in)
part B pins: 5 IN B+ (in), 6 IN B- (in), 7 OUT B (out)